# EAGLE library part MPXH6115A (library freescale)
High Temperature Accuracy Integrated Silicon Pressure Sensor for Measuring Absolute Pressure, On-Chip Signal Conditioned, Temperature Compensated and Calibrated
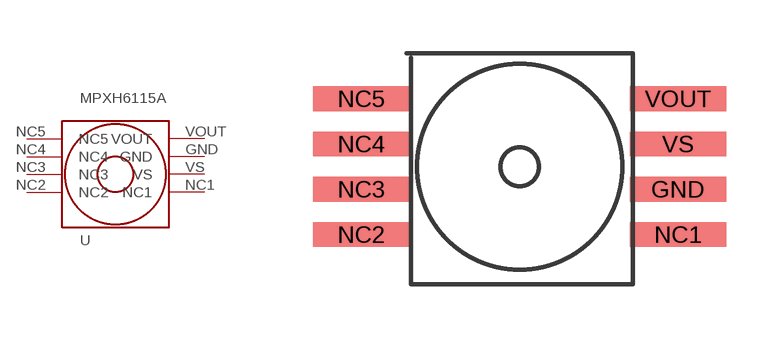
[diagram p8: symbol with the pads of MPXH6115A; footprint MPXH6115A]

Designator prefix -

## MPXH6115AMPXH6115A6U  [MPXH6115A]
GND  GND
NC1  NC1
NC2  NC2
NC3  NC3
NC4  NC4
NC5  NC5
VOUT  VOUT
VS  VS

## Footprint MPXH6115A (pad centres in mm)
smd 2.7 x 0.69: GND 8.89,-2.54; NC1 8.89,-3.81; NC2 0,-3.81; NC3 0,-2.54; NC4 0,-1.27; NC5 0,0; VOUT 8.89,0; VS 8.89,-1.27